# EAGLE library part ITG-3200 (library barthess)
ITG-3200 3-axis gyro, digital output, qfn24 package
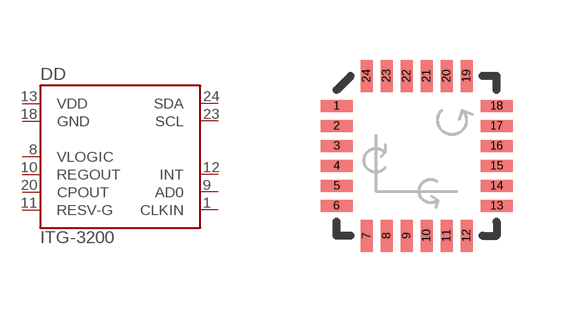
[diagram p9: symbol with the pads of QFN-24; footprint QFN-24]

Designator prefix DD

## ITG-3200  [QFN-24]
1  CLKIN  in
8  VLOGIC  pwr
9  AD0  in
10  REGOUT  out
11  RESV-G
12  INT  out
13  VDD  pwr
18  GND  pwr
20  CPOUT  out
23  SCL  oc
24  SDA  oc

## Footprint QFN-24 (pad centres in mm)
smd 0.8 x 0.3: 1 -2,1.25; 2 -2,0.75; 3 -2,0.25; 4 -2,-0.25; 5 -2,-0.75; 6 -2,-1.25; 13 2,-1.25; 14 2,-0.75; 15 2,-0.25; 16 2,0.25; 17 2,0.75; 18 2,1.25
smd 0.3 x 0.8: 7 -1.25,-2; 8 -0.75,-2; 9 -0.25,-2; 10 0.25,-2; 11 0.75,-2; 12 1.25,-2; 19 1.25,2; 20 0.75,2; 21 0.25,2; 22 -0.25,2; 23 -0.75,2; 24 -1.25,2